# Altium integrated library TI Power Management Standard Voltage Regulator.IntLib: 214 symbols (part 5 of 7)
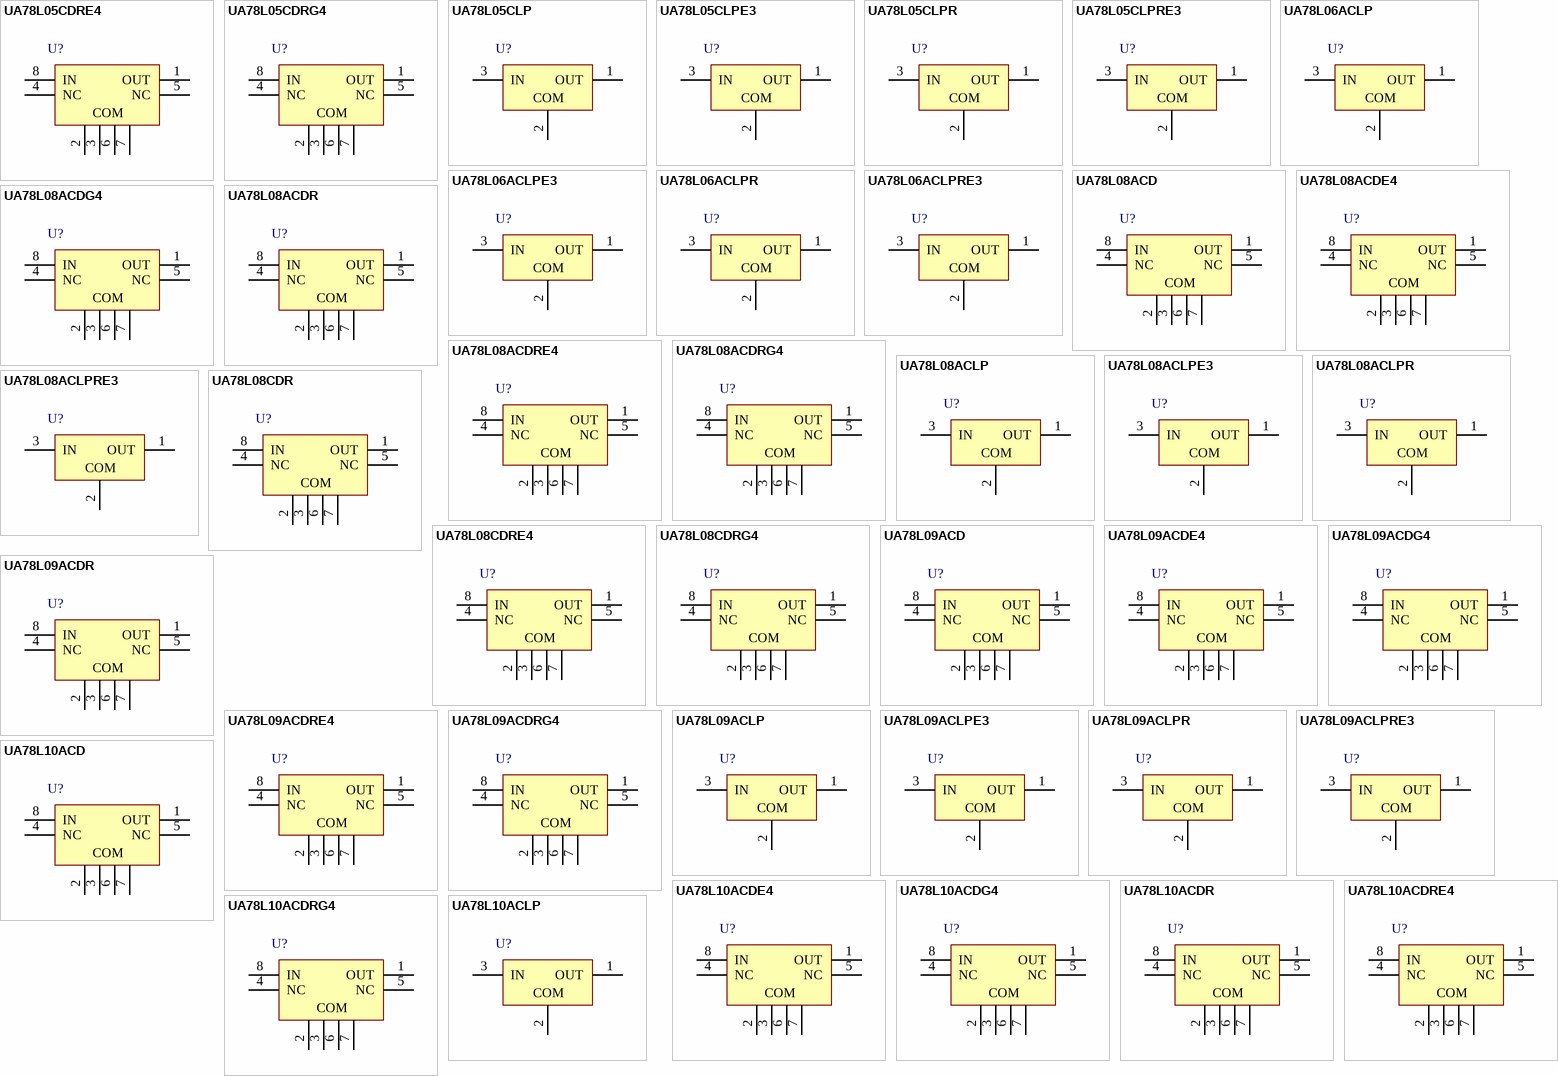
[diagram p10: symbols UA78L05CDRE4 to UA78L10ACLP]

## UA78L05CDRE4
designator U?
Fixed Regulator with 7 to 20 V Input and 5 V Output, 0 to 125 degC, 8-Pin SOIC (D), Green (RoHS & no Sb/Br); Manufacturer: Texas Instruments; PartNumber: UA78L05CDRE4; Iout(Max)(A): 0.1; Iq(Typ)(mA): 6; SubFamily: Single Channel LDO; Vin(Max)(V): 20; Vin(Min)(V): 7; Vout(Max)(V): 5; DatasheetVersion: SLVS010S; PackageVersion: revM, Jun-2011; PackageReference: D8; PackageDescription: 8-Pin Plastic Small Outline Integrated Circuit, 4.9 x 3.9 mm, Pitch 1.27 mm Pitch; Supplier 1: Digi-Key; Supplier Part Number 1: UA78L05CDRE4-ND; Supplier 2: Newark; Supplier Part Number 2: 37K4713; Supplier 3: Mouser; Supplier Part Number 3: 595-UA78L05CDRE4; Eco-Plan: Green (RoHS & no Sb/Br); Vout(Min)(V): 5; Mounting Technology: Surface Mount; Code_JEDEC: MS-012AA; ComponentLink1Description: Datasheet; ComponentLink1URL: http://www.ti.com/general/docs/lit/getliterature.tsp?genericPartNumber=UA78L05&fileType=pdf; ComponentLink2Description: Package Specification; ComponentLink2URL: http://www.ti.com/litv/pdf/msoi002j; ComponentLink3Description: URL Link1; ComponentLink3URL: Samples URL:http://www.ti.com/product/ua78l05#samples
footprint D8_N (SOIC, 8-Leads, Body 4.9x3.9mm, Pitch 1.27mm, IPC Medium Density)
footprint D8_L (SOIC, 8-Leads, Body 4.9x3.9mm, Pitch 1.27mm, IPC High Density)
footprint D8_M (SOIC, 8-Leads, Body 4.9x3.9mm, Pitch 1.27mm, IPC Low Density)
pins: 1 OUT (power), 2 COM (power), 3 COM (power), 4 NC, 5 NC, 6 COM (power), 7 COM (power), 8 IN (power)

## UA78L05CDRG4
designator U?
Fixed Regulator with 7 to 20 V Input and 5 V Output, 0 to 125 degC, 8-Pin SOIC (D), Green (RoHS & no Sb/Br); Manufacturer: Texas Instruments; PartNumber: UA78L05CDRG4; Iout(Max)(A): 0.1; Iq(Typ)(mA): 6; Vin(Max)(V): 20; Vin(Min)(V): 7; Vout(Max)(V): 5; DatasheetVersion: SLVS010S; PackageVersion: revM, Jun-2011; PackageReference: D8; PackageDescription: 8-Pin Plastic Small Outline Integrated Circuit, 4.9 x 3.9 mm, Pitch 1.27 mm Pitch; Supplier 1: Digi-Key; Supplier Part Number 1: UA78L05CDRG4-ND; Supplier 2: Newark; Supplier Part Number 2: 58K7029; Supplier 3: Mouser; Supplier Part Number 3: 595-UA78L05CDRG4; Eco-Plan: Green (RoHS & no Sb/Br); Vout(Min)(V): 5; Mounting Technology: Surface Mount; Code_JEDEC: MS-012AA; ComponentLink1Description: Datasheet; ComponentLink1URL: http://www.ti.com/general/docs/lit/getliterature.tsp?genericPartNumber=UA78L05&fileType=pdf; ComponentLink2Description: Package Specification; ComponentLink2URL: http://www.ti.com/litv/pdf/msoi002j; ComponentLink3Description: URL Link1; ComponentLink3URL: Samples URL:http://www.ti.com/product/ua78l05#samples
footprint D8_N (SOIC, 8-Leads, Body 4.9x3.9mm, Pitch 1.27mm, IPC Medium Density)
footprint D8_L (SOIC, 8-Leads, Body 4.9x3.9mm, Pitch 1.27mm, IPC High Density)
footprint D8_M (SOIC, 8-Leads, Body 4.9x3.9mm, Pitch 1.27mm, IPC Low Density)
pins: 1 OUT (power), 2 COM (power), 3 COM (power), 4 NC, 5 NC, 6 COM (power), 7 COM (power), 8 IN (power)

## UA78L05CLP
designator U?
Fixed Regulator with 7 to 20 V Input and 5 V Output, 0 to 125 degC, 3-Pin TO-92 (LP), Pb-Free (RoHS); Manufacturer: Texas Instruments; PartNumber: UA78L05CLP; Iout(Max)(A): 0.1; Iq(Typ)(mA): 6; SubFamily: Single Channel LDO; Vin(Max)(V): 20; Vin(Min)(V): 7; Vout(Max)(V): 5; DatasheetVersion: SLVS010S; PackageVersion: revC, Oct-2001; PackageReference: LP3; PackageDescription: Plastic Cylindrical Package, Formed Lead Option (TO-92); Supplier 1: Digi-Key; Supplier Part Number 1: 296-11121-5-ND; Supplier 2: Newark; Supplier Part Number 2: 52M8832; Supplier 3: Mouser; Supplier Part Number 3: 595-UA78L05CLP; Eco-Plan: Pb-Free (RoHS); Vout(Min)(V): 5; Mounting Technology: Through Hole; Code_JEDEC: TO-226-AA; ComponentLink1Description: Datasheet; ComponentLink1URL: http://www.ti.com/general/docs/lit/getliterature.tsp?genericPartNumber=UA78L05&fileType=pdf; ComponentLink2Description: Package Specification; ComponentLink2URL: http://www.ti.com/litv/pdf/msot002a; ComponentLink3Description: URL Link1; ComponentLink3URL: Samples URL:http://www.ti.com/product/ua78l05#samples
footprint LP3 (TO, Flat Index; 3 In-Line, Formed Axial Leads; Body Dia. 4.8mm; Leads 0.56 x 0.41 mm (max))
pins: 1 OUT (power), 2 COM (power), 3 IN (power)

## UA78L05CLPE3
designator U?
Fixed Regulator with 7 to 20 V Input and 5 V Output, 0 to 125 degC, 3-Pin TO-92 (LP), Pb-Free (RoHS); Manufacturer: Texas Instruments; PartNumber: UA78L05CLPE3; Iout(Max)(A): 0.1; Iq(Typ)(mA): 6; SubFamily: Standard Voltage Regulator; Vin(Max)(V): 20; Vin(Min)(V): 7; Vout(Max)(V): 5; DatasheetVersion: SLVS010S; PackageVersion: revC, Oct-2001; PackageReference: LP3; PackageDescription: Plastic Cylindrical Package, Formed Lead Option (TO-92); Supplier 1: Digi-Key; Supplier Part Number 1: UA78L05CLPE3-ND; Supplier 2: Newark; Supplier Part Number 2: 70K5839; Supplier 3: Mouser; Supplier Part Number 3: 595-UA78L05CLPE3; Eco-Plan: Pb-Free (RoHS); Vout(Min)(V): 5; Mounting Technology: Through Hole; Code_JEDEC: TO-226-AA; ComponentLink1Description: Datasheet; ComponentLink1URL: http://www.ti.com/general/docs/lit/getliterature.tsp?genericPartNumber=UA78L05&fileType=pdf; ComponentLink2Description: Package Specification; ComponentLink2URL: http://www.ti.com/litv/pdf/msot002a; ComponentLink3Description: URL Link1; ComponentLink3URL: Samples URL:http://www.ti.com/product/ua78l05#samples
footprint LP3 (TO, Flat Index; 3 In-Line, Formed Axial Leads; Body Dia. 4.8mm; Leads 0.56 x 0.41 mm (max))
pins: 1 OUT (power), 2 COM (power), 3 IN (power)

## UA78L05CLPR
designator U?
Fixed Regulator with 7 to 20 V Input and 5 V Output, 0 to 125 degC, 3-Pin TO-92 (LP), Pb-Free (RoHS); Manufacturer: Texas Instruments; PartNumber: UA78L05CLPR; Iout(Max)(A): 0.1; Iq(Typ)(mA): 6; SubFamily: Single Channel LDO; Vin(Max)(V): 20; Vin(Min)(V): 7; Vout(Max)(V): 5; DatasheetVersion: SLVS010S; PackageVersion: revC, Oct-2001; PackageReference: LP3; PackageDescription: Plastic Cylindrical Package, Formed Lead Option (TO-92); Supplier 1: Digi-Key; Supplier Part Number 1: UA78L05CLPR-ND; Supplier 2: Newark; Supplier Part Number 2: 77C1861; Supplier 3: Mouser; Supplier Part Number 3: 595-UA78L05CLPR; Eco-Plan: Pb-Free (RoHS); Vout(Min)(V): 5; Mounting Technology: Through Hole; Code_JEDEC: TO-226-AA; ComponentLink1Description: Datasheet; ComponentLink1URL: http://www.ti.com/general/docs/lit/getliterature.tsp?genericPartNumber=UA78L05&fileType=pdf; ComponentLink2Description: Package Specification; ComponentLink2URL: http://www.ti.com/litv/pdf/msot002a; ComponentLink3Description: URL Link1; ComponentLink3URL: Samples URL:http://www.ti.com/product/ua78l05#samples
footprint LP3 (TO, Flat Index; 3 In-Line, Formed Axial Leads; Body Dia. 4.8mm; Leads 0.56 x 0.41 mm (max))
pins: 1 OUT (power), 2 COM (power), 3 IN (power)

## UA78L05CLPRE3
designator U?
Fixed Regulator with 7 to 20 V Input and 5 V Output, 0 to 125 degC, 3-Pin TO-92 (LP), Pb-Free (RoHS); Manufacturer: Texas Instruments; PartNumber: UA78L05CLPRE3; Iout(Max)(A): 0.1; Iq(Typ)(mA): 6; SubFamily: Single Channel LDO; Vin(Max)(V): 20; Vin(Min)(V): 7; Vout(Max)(V): 5; DatasheetVersion: SLVS010S; PackageVersion: revC, Oct-2001; PackageReference: LP3; PackageDescription: Plastic Cylindrical Package, Formed Lead Option (TO-92); Supplier 1: Digi-Key; Supplier Part Number 1: UA78L05CLPRE3-ND; Supplier 2: Newark; Supplier Part Number 2: 70K5840; Supplier 3: Mouser; Supplier Part Number 3: 595-UA78L05CLPRE3; Eco-Plan: Pb-Free (RoHS); Vout(Min)(V): 5; Mounting Technology: Through Hole; Code_JEDEC: TO-226-AA; ComponentLink1Description: Datasheet; ComponentLink1URL: http://www.ti.com/general/docs/lit/getliterature.tsp?genericPartNumber=UA78L05&fileType=pdf; ComponentLink2Description: Package Specification; ComponentLink2URL: http://www.ti.com/litv/pdf/msot002a; ComponentLink3Description: URL Link1; ComponentLink3URL: Samples URL:http://www.ti.com/product/ua78l05#samples
footprint LP3 (TO, Flat Index; 3 In-Line, Formed Axial Leads; Body Dia. 4.8mm; Leads 0.56 x 0.41 mm (max))
pins: 1 OUT (power), 2 COM (power), 3 IN (power)

## UA78L06ACLP
designator U?
Fixed Regulator with 8.5 to 20 V Input and 6.2 V Output, 0 to 125 degC, 3-Pin TO-92 (LP), Pb-Free (RoHS); Manufacturer: Texas Instruments; PartNumber: UA78L06ACLP; Iout(Max)(A): 0.1; Iq(Typ)(mA): 6; SubFamily: Single Channel LDO; Vin(Max)(V): 20; Vin(Min)(V): 8.5; Vout(Max)(V): 6.2; DatasheetVersion: SLVS010S; PackageVersion: revC, Oct-2001; PackageReference: LP3; PackageDescription: Plastic Cylindrical Package, Formed Lead Option (TO-92); Supplier 1: Digi-Key; Supplier Part Number 1: 296-11122-5-ND; Supplier 2: Newark; Supplier Part Number 2: 09F1486; Supplier 3: Mouser; Supplier Part Number 3: 595-UA78L06ACLP; Eco-Plan: Pb-Free (RoHS); Vout(Min)(V): 6.2; Mounting Technology: Through Hole; Code_JEDEC: TO-226-AA; ComponentLink1Description: Datasheet; ComponentLink1URL: http://www.ti.com/general/docs/lit/getliterature.tsp?genericPartNumber=UA78L06A&fileType=pdf; ComponentLink2Description: Package Specification; ComponentLink2URL: http://www.ti.com/litv/pdf/msot002a; ComponentLink3Description: URL Link1; ComponentLink3URL: Samples URL:http://www.ti.com/product/ua78l06a#samples
footprint LP3 (TO, Flat Index; 3 In-Line, Formed Axial Leads; Body Dia. 4.8mm; Leads 0.56 x 0.41 mm (max))
pins: 1 OUT (power), 2 COM (power), 3 IN (power)

## UA78L06ACLPE3
designator U?
Fixed Regulator with 8.5 to 20 V Input and 6.2 V Output, 0 to 125 degC, 3-Pin TO-92 (LP), Pb-Free (RoHS); Manufacturer: Texas Instruments; PartNumber: UA78L06ACLPE3; Iout(Max)(A): 0.1; Iq(Typ)(mA): 6; SubFamily: Single Channel LDO; Vin(Max)(V): 20; Vin(Min)(V): 8.5; Vout(Max)(V): 6.2; DatasheetVersion: SLVS010S; PackageVersion: revC, Oct-2001; PackageReference: LP3; PackageDescription: Plastic Cylindrical Package, Formed Lead Option (TO-92); Supplier 1: Digi-Key; Supplier Part Number 1: UA78L06ACLPE3-ND; Supplier 2: Farnell; Supplier Part Number 2: 1236592; Supplier 3: Newark; Supplier Part Number 3: 13M3345; Supplier 4: Newark; Supplier Part Number 4: 70K5841; Supplier 5: Mouser; Supplier Part Number 5: 595-UA78L06ACLPE3; Eco-Plan: Pb-Free (RoHS); Vout(Min)(V): 6.2; Mounting Technology: Through Hole; Code_JEDEC: TO-226-AA; ComponentLink1Description: Datasheet; ComponentLink1URL: http://www.ti.com/general/docs/lit/getliterature.tsp?genericPartNumber=UA78L06A&fileType=pdf; ComponentLink2Description: Package Specification; ComponentLink2URL: http://www.ti.com/litv/pdf/msot002a; ComponentLink3Description: URL Link1; ComponentLink3URL: Samples URL:http://www.ti.com/product/ua78l06a#samples
footprint LP3 (TO, Flat Index; 3 In-Line, Formed Axial Leads; Body Dia. 4.8mm; Leads 0.56 x 0.41 mm (max))
pins: 1 OUT (power), 2 COM (power), 3 IN (power)

## UA78L06ACLPR
designator U?
Fixed Regulator with 8.5 to 20 V Input and 6.2 V Output, 0 to 125 degC, 3-Pin TO-92 (LP), Pb-Free (RoHS); Manufacturer: Texas Instruments; PartNumber: UA78L06ACLPR; Iout(Max)(A): 0.1; Iq(Typ)(mA): 6; SubFamily: Single Channel LDO; Vin(Max)(V): 20; Vin(Min)(V): 8.5; Vout(Max)(V): 6.2; DatasheetVersion: SLVS010S; PackageVersion: revC, Oct-2001; PackageReference: LP3; PackageDescription: Plastic Cylindrical Package, Formed Lead Option (TO-92); Supplier 1: Digi-Key; Supplier Part Number 1: 296-31461-2-ND; Supplier 2: Digi-Key; Supplier Part Number 2: 296-31461-1-ND; Supplier 3: Newark; Supplier Part Number 3: 77C1863; Supplier 4: Mouser; Supplier Part Number 4: 595-UA78L06ACLPR; Eco-Plan: Pb-Free (RoHS); Vout(Min)(V): 6.2; Mounting Technology: Through Hole; Code_JEDEC: TO-226-AA; ComponentLink1Description: Datasheet; ComponentLink1URL: http://www.ti.com/general/docs/lit/getliterature.tsp?genericPartNumber=UA78L06A&fileType=pdf; ComponentLink2Description: Package Specification; ComponentLink2URL: http://www.ti.com/litv/pdf/msot002a; ComponentLink3Description: URL Link1; ComponentLink3URL: Samples URL:http://www.ti.com/product/ua78l06a#samples
footprint LP3 (TO, Flat Index; 3 In-Line, Formed Axial Leads; Body Dia. 4.8mm; Leads 0.56 x 0.41 mm (max))
pins: 1 OUT (power), 2 COM (power), 3 IN (power)

## UA78L06ACLPRE3
designator U?
Fixed Regulator with 8.5 to 20 V Input and 6.2 V Output, 0 to 125 degC, 3-Pin TO-92 (LP), Pb-Free (RoHS); Manufacturer: Texas Instruments; PartNumber: UA78L06ACLPRE3; Iout(Max)(A): 0.1; Iq(Typ)(mA): 6; SubFamily: Single Channel LDO; Vin(Max)(V): 20; Vin(Min)(V): 8.5; Vout(Max)(V): 6.2; DatasheetVersion: SLVS010S; PackageVersion: revC, Oct-2001; PackageReference: LP3; PackageDescription: Plastic Cylindrical Package, Formed Lead Option (TO-92); Supplier 1: Digi-Key; Supplier Part Number 1: UA78L06ACLPRE3-ND; Supplier 2: Newark; Supplier Part Number 2: 70K5842; Supplier 3: Mouser; Supplier Part Number 3: 595-UA78L06ACLPRE3; Eco-Plan: Pb-Free (RoHS); Vout(Min)(V): 6.2; Mounting Technology: Through Hole; Code_JEDEC: TO-226-AA; ComponentLink1Description: Datasheet; ComponentLink1URL: http://www.ti.com/general/docs/lit/getliterature.tsp?genericPartNumber=UA78L06A&fileType=pdf; ComponentLink2Description: Package Specification; ComponentLink2URL: http://www.ti.com/litv/pdf/msot002a; ComponentLink3Description: URL Link1; ComponentLink3URL: Samples URL:http://www.ti.com/product/ua78l06a#samples
footprint LP3 (TO, Flat Index; 3 In-Line, Formed Axial Leads; Body Dia. 4.8mm; Leads 0.56 x 0.41 mm (max))
pins: 1 OUT (power), 2 COM (power), 3 IN (power)

## UA78L08ACD
designator U?
Fixed Regulator with 10.5 to 23 V Input and 8 V Output, 0 to 125 degC, 8-Pin SOIC (D), Green (RoHS & no Sb/Br); Manufacturer: Texas Instruments; PartNumber: UA78L08ACD; Iout(Max)(A): 0.1; Iq(Typ)(mA): 6; Vdo(Typ)(V): 1.7; Vin(Max)(V): 23; Vin(Min)(V): 10.5; Vout(Max)(V): 8; DatasheetVersion: SLVS010S; PackageVersion: revM, Jun-2011; PackageReference: D8; PackageDescription: 8-Pin Plastic Small Outline Integrated Circuit, 4.9 x 3.9 mm, Pitch 1.27 mm Pitch; Supplier 1: Digi-Key; Supplier Part Number 1: 296-11123-5-ND; Supplier 2: Farnell; Supplier Part Number 2: 9593888; Supplier 3: Newark; Supplier Part Number 3: 98K2049; Supplier 4: Newark; Supplier Part Number 4: 09F1488; Supplier 5: Mouser; Supplier Part Number 5: 595-UA78L08ACD; Eco-Plan: Green (RoHS & no Sb/Br); Vout(Min)(V): 8; Mounting Technology: Surface Mount; Code_JEDEC: MS-012AA; ComponentLink1Description: Datasheet; ComponentLink1URL: http://www.ti.com/general/docs/lit/getliterature.tsp?genericPartNumber=UA78L08A&fileType=pdf; ComponentLink2Description: Package Specification; ComponentLink2URL: http://www.ti.com/litv/pdf/msoi002j; ComponentLink3Description: URL Link1; ComponentLink3URL: Samples URL:http://www.ti.com/product/ua78l08a#samples
footprint D8_N (SOIC, 8-Leads, Body 4.9x3.9mm, Pitch 1.27mm, IPC Medium Density)
footprint D8_L (SOIC, 8-Leads, Body 4.9x3.9mm, Pitch 1.27mm, IPC High Density)
footprint D8_M (SOIC, 8-Leads, Body 4.9x3.9mm, Pitch 1.27mm, IPC Low Density)
pins: 1 OUT (power), 2 COM (power), 3 COM (power), 4 NC, 5 NC, 6 COM (power), 7 COM (power), 8 IN (power)

## UA78L08ACDE4
designator U?
Fixed Regulator with 10.5 to 23 V Input and 8 V Output, 0 to 125 degC, 8-Pin SOIC (D), Green (RoHS & no Sb/Br); Manufacturer: Texas Instruments; PartNumber: UA78L08ACDE4; Iout(Max)(A): 0.1; Iq(Typ)(mA): 6; Vdo(Typ)(V): 1.7; Vin(Max)(V): 23; Vin(Min)(V): 10.5; Vout(Max)(V): 8; DatasheetVersion: SLVS010S; PackageVersion: revM, Jun-2011; PackageReference: D8; PackageDescription: 8-Pin Plastic Small Outline Integrated Circuit, 4.9 x 3.9 mm, Pitch 1.27 mm Pitch; Supplier 1: Digi-Key; Supplier Part Number 1: UA78L08ACDE4-ND; Supplier 2: Newark; Supplier Part Number 2: 40K9819; Supplier 3: Mouser; Supplier Part Number 3: 595-UA78L08ACDE4; Eco-Plan: Green (RoHS & no Sb/Br); Vout(Min)(V): 8; Mounting Technology: Surface Mount; Code_JEDEC: MS-012AA; ComponentLink1Description: Datasheet; ComponentLink1URL: http://www.ti.com/general/docs/lit/getliterature.tsp?genericPartNumber=UA78L08A&fileType=pdf; ComponentLink2Description: Package Specification; ComponentLink2URL: http://www.ti.com/litv/pdf/msoi002j; ComponentLink3Description: URL Link1; ComponentLink3URL: Samples URL:http://www.ti.com/product/ua78l08a#samples
footprint D8_N (SOIC, 8-Leads, Body 4.9x3.9mm, Pitch 1.27mm, IPC Medium Density)
footprint D8_L (SOIC, 8-Leads, Body 4.9x3.9mm, Pitch 1.27mm, IPC High Density)
footprint D8_M (SOIC, 8-Leads, Body 4.9x3.9mm, Pitch 1.27mm, IPC Low Density)
pins: 1 OUT (power), 2 COM (power), 3 COM (power), 4 NC, 5 NC, 6 COM (power), 7 COM (power), 8 IN (power)

## UA78L08ACDG4
designator U?
Fixed Regulator with 10.5 to 23 V Input and 8 V Output, 0 to 125 degC, 8-Pin SOIC (D), Green (RoHS & no Sb/Br); Manufacturer: Texas Instruments; PartNumber: UA78L08ACDG4; Iout(Max)(A): 0.1; Iq(Typ)(mA): 6; Vdo(Typ)(V): 1.7; Vin(Max)(V): 23; Vin(Min)(V): 10.5; Vout(Max)(V): 8; DatasheetVersion: SLVS010S; PackageVersion: revM, Jun-2011; PackageReference: D8; PackageDescription: 8-Pin Plastic Small Outline Integrated Circuit, 4.9 x 3.9 mm, Pitch 1.27 mm Pitch; Supplier 1: Digi-Key; Supplier Part Number 1: UA78L08ACDG4-ND; Supplier 2: Newark; Supplier Part Number 2: 40K9820; Supplier 3: Mouser; Supplier Part Number 3: 595-UA78L08ACDG4; Eco-Plan: Green (RoHS & no Sb/Br); Vout(Min)(V): 8; Mounting Technology: Surface Mount; Code_JEDEC: MS-012AA; ComponentLink1Description: Datasheet; ComponentLink1URL: http://www.ti.com/general/docs/lit/getliterature.tsp?genericPartNumber=UA78L08A&fileType=pdf; ComponentLink2Description: Package Specification; ComponentLink2URL: http://www.ti.com/litv/pdf/msoi002j; ComponentLink3Description: URL Link1; ComponentLink3URL: Samples URL:http://www.ti.com/product/ua78l08a#samples
footprint D8_N (SOIC, 8-Leads, Body 4.9x3.9mm, Pitch 1.27mm, IPC Medium Density)
footprint D8_L (SOIC, 8-Leads, Body 4.9x3.9mm, Pitch 1.27mm, IPC High Density)
footprint D8_M (SOIC, 8-Leads, Body 4.9x3.9mm, Pitch 1.27mm, IPC Low Density)
pins: 1 OUT (power), 2 COM (power), 3 COM (power), 4 NC, 5 NC, 6 COM (power), 7 COM (power), 8 IN (power)

## UA78L08ACDR
designator U?
Fixed Regulator with 10.5 to 23 V Input and 8 V Output, 0 to 125 degC, 8-Pin SOIC (D), Green (RoHS & no Sb/Br); Manufacturer: Texas Instruments; PartNumber: UA78L08ACDR; Iout(Max)(A): 0.1; Iq(Typ)(mA): 6; Vdo(Typ)(V): 1.7; Vin(Max)(V): 23; Vin(Min)(V): 10.5; Vout(Max)(V): 8; DatasheetVersion: SLVS010S; PackageVersion: revM, Jun-2011; PackageReference: D8; PackageDescription: 8-Pin Plastic Small Outline Integrated Circuit, 4.9 x 3.9 mm, Pitch 1.27 mm Pitch; Supplier 1: Digi-Key; Supplier Part Number 1: 296-24390-2-ND; Supplier 2: Digi-Key; Supplier Part Number 2: 296-24390-1-ND; Supplier 3: Digi-Key; Supplier Part Number 3: 296-24390-6-ND; Supplier 4: Newark; Supplier Part Number 4: 77C1865; Supplier 5: Mouser; Supplier Part Number 5: 595-UA78L08ACDR; Eco-Plan: Green (RoHS & no Sb/Br); Vout(Min)(V): 8; Mounting Technology: Surface Mount; Code_JEDEC: MS-012AA; ComponentLink1Description: Datasheet; ComponentLink1URL: http://www.ti.com/general/docs/lit/getliterature.tsp?genericPartNumber=UA78L08A&fileType=pdf; ComponentLink2Description: Package Specification; ComponentLink2URL: http://www.ti.com/litv/pdf/msoi002j; ComponentLink3Description: URL Link1; ComponentLink3URL: Samples URL:http://www.ti.com/product/ua78l08a#samples
footprint D8_N (SOIC, 8-Leads, Body 4.9x3.9mm, Pitch 1.27mm, IPC Medium Density)
footprint D8_L (SOIC, 8-Leads, Body 4.9x3.9mm, Pitch 1.27mm, IPC High Density)
footprint D8_M (SOIC, 8-Leads, Body 4.9x3.9mm, Pitch 1.27mm, IPC Low Density)
pins: 1 OUT (power), 2 COM (power), 3 COM (power), 4 NC, 5 NC, 6 COM (power), 7 COM (power), 8 IN (power)

## UA78L08ACDRE4
designator U?
Fixed Regulator with 10.5 to 23 V Input and 8 V Output, 0 to 125 degC, 8-Pin SOIC (D), Green (RoHS & no Sb/Br); Manufacturer: Texas Instruments; PartNumber: UA78L08ACDRE4; Iout(Max)(A): 0.1; Iq(Typ)(mA): 6; SubFamily: Standard Voltage Regulator; Vin(Max)(V): 23; Vin(Min)(V): 10.5; Vout(Max)(V): 8; DatasheetVersion: SLVS010S; PackageVersion: revM, Jun-2011; PackageReference: D8; PackageDescription: 8-Pin Plastic Small Outline Integrated Circuit, 4.9 x 3.9 mm, Pitch 1.27 mm Pitch; Supplier 1: Digi-Key; Supplier Part Number 1: UA78L08ACDRE4-ND; Supplier 2: Newark; Supplier Part Number 2: 40K9821; Supplier 3: Mouser; Supplier Part Number 3: 595-UA78L08ACDRE4; Eco-Plan: Green (RoHS & no Sb/Br); Vout(Min)(V): 8; Mounting Technology: Surface Mount; Code_JEDEC: MS-012AA; ComponentLink1Description: Datasheet; ComponentLink1URL: http://www.ti.com/general/docs/lit/getliterature.tsp?genericPartNumber=UA78L08A&fileType=pdf; ComponentLink2Description: Package Specification; ComponentLink2URL: http://www.ti.com/litv/pdf/msoi002j; ComponentLink3Description: URL Link1; ComponentLink3URL: Samples URL:http://www.ti.com/product/ua78l08a#samples
footprint D8_N (SOIC, 8-Leads, Body 4.9x3.9mm, Pitch 1.27mm, IPC Medium Density)
footprint D8_L (SOIC, 8-Leads, Body 4.9x3.9mm, Pitch 1.27mm, IPC High Density)
footprint D8_M (SOIC, 8-Leads, Body 4.9x3.9mm, Pitch 1.27mm, IPC Low Density)
pins: 1 OUT (power), 2 COM (power), 3 COM (power), 4 NC, 5 NC, 6 COM (power), 7 COM (power), 8 IN (power)

## UA78L08ACDRG4
designator U?
Fixed Regulator with 10.5 to 23 V Input and 8 V Output, 0 to 125 degC, 8-Pin SOIC (D), Green (RoHS & no Sb/Br); Manufacturer: Texas Instruments; PartNumber: UA78L08ACDRG4; Iout(Max)(A): 0.1; Iq(Typ)(mA): 6; Vdo(Typ)(V): 1.7; Vin(Max)(V): 23; Vin(Min)(V): 10.5; Vout(Max)(V): 8; DatasheetVersion: SLVS010S; PackageVersion: revM, Jun-2011; PackageReference: D8; PackageDescription: 8-Pin Plastic Small Outline Integrated Circuit, 4.9 x 3.9 mm, Pitch 1.27 mm Pitch; Supplier 1: Digi-Key; Supplier Part Number 1: UA78L08ACDRG4-ND; Supplier 2: Newark; Supplier Part Number 2: 40K9822; Supplier 3: Mouser; Supplier Part Number 3: 595-UA78L08ACDRG4; Eco-Plan: Green (RoHS & no Sb/Br); Vout(Min)(V): 8; Mounting Technology: Surface Mount; Code_JEDEC: MS-012AA; ComponentLink1Description: Datasheet; ComponentLink1URL: http://www.ti.com/general/docs/lit/getliterature.tsp?genericPartNumber=UA78L08A&fileType=pdf; ComponentLink2Description: Package Specification; ComponentLink2URL: http://www.ti.com/litv/pdf/msoi002j; ComponentLink3Description: URL Link1; ComponentLink3URL: Samples URL:http://www.ti.com/product/ua78l08a#samples
footprint D8_N (SOIC, 8-Leads, Body 4.9x3.9mm, Pitch 1.27mm, IPC Medium Density)
footprint D8_L (SOIC, 8-Leads, Body 4.9x3.9mm, Pitch 1.27mm, IPC High Density)
footprint D8_M (SOIC, 8-Leads, Body 4.9x3.9mm, Pitch 1.27mm, IPC Low Density)
pins: 1 OUT (power), 2 COM (power), 3 COM (power), 4 NC, 5 NC, 6 COM (power), 7 COM (power), 8 IN (power)

## UA78L08ACLP
designator U?
Fixed Regulator with 10.5 to 23 V Input and 8 V Output, 0 to 125 degC, 3-Pin TO-92 (LP), Pb-Free (RoHS); Manufacturer: Texas Instruments; PartNumber: UA78L08ACLP; Iout(Max)(A): 0.1; Iq(Typ)(mA): 6; Vdo(Typ)(V): 1.7; Vin(Max)(V): 23; Vin(Min)(V): 10.5; Vout(Max)(V): 8; DatasheetVersion: SLVS010S; PackageVersion: revC, Oct-2001; PackageReference: LP3; PackageDescription: Plastic Cylindrical Package, Formed Lead Option (TO-92); Supplier 1: Digi-Key; Supplier Part Number 1: 296-11124-5-ND; Supplier 2: Farnell; Supplier Part Number 2: 2394030; Supplier 3: Newark; Supplier Part Number 3: 09F1489; Supplier 4: Mouser; Supplier Part Number 4: 595-UA78L08ACLP; Eco-Plan: Pb-Free (RoHS); Vout(Min)(V): 8; Mounting Technology: Through Hole; Code_JEDEC: TO-226-AA; ComponentLink1Description: Datasheet; ComponentLink1URL: http://www.ti.com/general/docs/lit/getliterature.tsp?genericPartNumber=UA78L08A&fileType=pdf; ComponentLink2Description: Package Specification; ComponentLink2URL: http://www.ti.com/litv/pdf/msot002a; ComponentLink3Description: URL Link1; ComponentLink3URL: Samples URL:http://www.ti.com/product/ua78l08a#samples
footprint LP3 (TO, Flat Index; 3 In-Line, Formed Axial Leads; Body Dia. 4.8mm; Leads 0.56 x 0.41 mm (max))
pins: 1 OUT (power), 2 COM (power), 3 IN (power)

## UA78L08ACLPE3
designator U?
Fixed Regulator with 10.5 to 23 V Input and 8 V Output, 0 to 125 degC, 3-Pin TO-92 (LP), Pb-Free (RoHS); Manufacturer: Texas Instruments; PartNumber: UA78L08ACLPE3; Iout(Max)(A): 0.1; Iq(Typ)(mA): 6; SubFamily: Standard Voltage Regulator; Vin(Max)(V): 23; Vin(Min)(V): 10.5; Vout(Max)(V): 8; DatasheetVersion: SLVS010S; PackageVersion: revC, Oct-2001; PackageReference: LP3; PackageDescription: Plastic Cylindrical Package, Formed Lead Option (TO-92); Supplier 1: Digi-Key; Supplier Part Number 1: UA78L08ACLPE3-ND; Supplier 2: Newark; Supplier Part Number 2: 70K5843; Supplier 3: Mouser; Supplier Part Number 3: 595-UA78L08ACLPE3; Eco-Plan: Pb-Free (RoHS); Vout(Min)(V): 8; Mounting Technology: Through Hole; Code_JEDEC: TO-226-AA; ComponentLink1Description: Datasheet; ComponentLink1URL: http://www.ti.com/general/docs/lit/getliterature.tsp?genericPartNumber=UA78L08A&fileType=pdf; ComponentLink2Description: Package Specification; ComponentLink2URL: http://www.ti.com/litv/pdf/msot002a; ComponentLink3Description: URL Link1; ComponentLink3URL: Samples URL:http://www.ti.com/product/ua78l08a#samples
footprint LP3 (TO, Flat Index; 3 In-Line, Formed Axial Leads; Body Dia. 4.8mm; Leads 0.56 x 0.41 mm (max))
pins: 1 OUT (power), 2 COM (power), 3 IN (power)

## UA78L08ACLPR
designator U?
Fixed Regulator with 10.5 to 23 V Input and 8 V Output, 0 to 125 degC, 3-Pin TO-92 (LP), Pb-Free (RoHS); Manufacturer: Texas Instruments; PartNumber: UA78L08ACLPR; Iout(Max)(A): 0.1; Iq(Typ)(mA): 6; SubFamily: Standard Voltage Regulator; Vin(Max)(V): 23; Vin(Min)(V): 10.5; Vout(Max)(V): 8; DatasheetVersion: SLVS010S; PackageVersion: revC, Oct-2001; PackageReference: LP3; PackageDescription: Plastic Cylindrical Package, Formed Lead Option (TO-92); Supplier 1: Digi-Key; Supplier Part Number 1: 296-15052-2-ND; Supplier 2: Digi-Key; Supplier Part Number 2: 296-15052-1-ND; Supplier 3: Newark; Supplier Part Number 3: 77C1866; Supplier 4: Mouser; Supplier Part Number 4: 595-UA78L08ACLPR; Eco-Plan: Pb-Free (RoHS); Vout(Min)(V): 8; Mounting Technology: Through Hole; Code_JEDEC: TO-226-AA; ComponentLink1Description: Datasheet; ComponentLink1URL: http://www.ti.com/general/docs/lit/getliterature.tsp?genericPartNumber=UA78L08A&fileType=pdf; ComponentLink2Description: Package Specification; ComponentLink2URL: http://www.ti.com/litv/pdf/msot002a; ComponentLink3Description: URL Link1; ComponentLink3URL: Samples URL:http://www.ti.com/product/ua78l08a#samples
footprint LP3 (TO, Flat Index; 3 In-Line, Formed Axial Leads; Body Dia. 4.8mm; Leads 0.56 x 0.41 mm (max))
pins: 1 OUT (power), 2 COM (power), 3 IN (power)

## UA78L08ACLPRE3
designator U?
Fixed Regulator with 10.5 to 23 V Input and 8 V Output, 0 to 125 degC, 3-Pin TO-92 (LP), Pb-Free (RoHS); Manufacturer: Texas Instruments; PartNumber: UA78L08ACLPRE3; Iout(Max)(A): 0.1; Iq(Typ)(mA): 6; SubFamily: Standard Voltage Regulator; Vin(Max)(V): 23; Vin(Min)(V): 10.5; Vout(Max)(V): 8; DatasheetVersion: SLVS010S; PackageVersion: revC, Oct-2001; PackageReference: LP3; PackageDescription: Plastic Cylindrical Package, Formed Lead Option (TO-92); Supplier 1: Digi-Key; Supplier Part Number 1: UA78L08ACLPRE3-ND; Supplier 2: Newark; Supplier Part Number 2: 70K5844; Supplier 3: Mouser; Supplier Part Number 3: 595-UA78L08ACLPRE3; Eco-Plan: Pb-Free (RoHS); Vout(Min)(V): 8; Mounting Technology: Through Hole; Code_JEDEC: TO-226-AA; ComponentLink1Description: Datasheet; ComponentLink1URL: http://www.ti.com/general/docs/lit/getliterature.tsp?genericPartNumber=UA78L08A&fileType=pdf; ComponentLink2Description: Package Specification; ComponentLink2URL: http://www.ti.com/litv/pdf/msot002a; ComponentLink3Description: URL Link1; ComponentLink3URL: Samples URL:http://www.ti.com/product/ua78l08a#samples
footprint LP3 (TO, Flat Index; 3 In-Line, Formed Axial Leads; Body Dia. 4.8mm; Leads 0.56 x 0.41 mm (max))
pins: 1 OUT (power), 2 COM (power), 3 IN (power)

## UA78L08CDR
designator U?
Fixed Regulator with 10.5 to 23 V Input and 8 V Output, 0 to 125 degC, 8-Pin SOIC (D), Green (RoHS & no Sb/Br); Manufacturer: Texas Instruments; PartNumber: UA78L08CDR; Iout(Max)(A): 0.1; Iq(Typ)(mA): 6; Vin(Max)(V): 23; Vin(Min)(V): 10.5; Vout(Max)(V): 8; DatasheetVersion: SLVS010S; PackageVersion: revM, Jun-2011; PackageReference: D8; PackageDescription: 8-Pin Plastic Small Outline Integrated Circuit, 4.9 x 3.9 mm, Pitch 1.27 mm Pitch; Supplier 1: Digi-Key; Supplier Part Number 1: UA78L08CDR-ND; Supplier 2: Newark; Supplier Part Number 2: 77C1869; Supplier 3: Mouser; Supplier Part Number 3: 595-UA78L08CDR; Eco-Plan: Green (RoHS & no Sb/Br); Vout(Min)(V): 8; Mounting Technology: Surface Mount; Code_JEDEC: MS-012AA; ComponentLink1Description: Datasheet; ComponentLink1URL: http://www.ti.com/general/docs/lit/getliterature.tsp?genericPartNumber=UA78L08&fileType=pdf; ComponentLink2Description: Package Specification; ComponentLink2URL: http://www.ti.com/litv/pdf/msoi002j; ComponentLink3Description: URL Link1; ComponentLink3URL: Samples URL:http://www.ti.com/product/ua78l08#samples
footprint D8_N (SOIC, 8-Leads, Body 4.9x3.9mm, Pitch 1.27mm, IPC Medium Density)
footprint D8_L (SOIC, 8-Leads, Body 4.9x3.9mm, Pitch 1.27mm, IPC High Density)
footprint D8_M (SOIC, 8-Leads, Body 4.9x3.9mm, Pitch 1.27mm, IPC Low Density)
pins: 1 OUT (power), 2 COM (power), 3 COM (power), 4 NC, 5 NC, 6 COM (power), 7 COM (power), 8 IN (power)

## UA78L08CDRE4
designator U?
Fixed Regulator with 10.5 to 23 V Input and 8 V Output, 0 to 125 degC, 8-Pin SOIC (D), Green (RoHS & no Sb/Br); Manufacturer: Texas Instruments; PartNumber: UA78L08CDRE4; Iout(Max)(A): 0.1; Iq(Typ)(mA): 6; SubFamily: Standard Voltage Regulator; Vin(Max)(V): 23; Vin(Min)(V): 10.5; Vout(Max)(V): 8; DatasheetVersion: SLVS010S; PackageVersion: revM, Jun-2011; PackageReference: D8; PackageDescription: 8-Pin Plastic Small Outline Integrated Circuit, 4.9 x 3.9 mm, Pitch 1.27 mm Pitch; Supplier 1: Digi-Key; Supplier Part Number 1: UA78L08CDRE4-ND; Supplier 2: Newark; Supplier Part Number 2: 37K4715; Supplier 3: Mouser; Supplier Part Number 3: 595-UA78L08CDRE4; Eco-Plan: Green (RoHS & no Sb/Br); Vout(Min)(V): 8; Mounting Technology: Surface Mount; Code_JEDEC: MS-012AA; ComponentLink1Description: Datasheet; ComponentLink1URL: http://www.ti.com/general/docs/lit/getliterature.tsp?genericPartNumber=UA78L08&fileType=pdf; ComponentLink2Description: Package Specification; ComponentLink2URL: http://www.ti.com/litv/pdf/msoi002j; ComponentLink3Description: URL Link1; ComponentLink3URL: Samples URL:http://www.ti.com/product/ua78l08#samples
footprint D8_N (SOIC, 8-Leads, Body 4.9x3.9mm, Pitch 1.27mm, IPC Medium Density)
footprint D8_L (SOIC, 8-Leads, Body 4.9x3.9mm, Pitch 1.27mm, IPC High Density)
footprint D8_M (SOIC, 8-Leads, Body 4.9x3.9mm, Pitch 1.27mm, IPC Low Density)
pins: 1 OUT (power), 2 COM (power), 3 COM (power), 4 NC, 5 NC, 6 COM (power), 7 COM (power), 8 IN (power)

## UA78L08CDRG4
designator U?
Fixed Regulator with 10.5 to 23 V Input and 8 V Output, 0 to 125 degC, 8-Pin SOIC (D), Green (RoHS & no Sb/Br); Manufacturer: Texas Instruments; PartNumber: UA78L08CDRG4; Iout(Max)(A): 0.1; Iq(Typ)(mA): 6; SubFamily: Standard Voltage Regulator; Vin(Max)(V): 23; Vin(Min)(V): 10.5; Vout(Max)(V): 8; DatasheetVersion: SLVS010S; PackageVersion: revM, Jun-2011; PackageReference: D8; PackageDescription: 8-Pin Plastic Small Outline Integrated Circuit, 4.9 x 3.9 mm, Pitch 1.27 mm Pitch; Supplier 1: Digi-Key; Supplier Part Number 1: UA78L08CDRG4-ND; Supplier 2: Newark; Supplier Part Number 2: 41M6397; Supplier 3: Mouser; Supplier Part Number 3: 595-UA78L08CDRG4; Eco-Plan: Green (RoHS & no Sb/Br); Vout(Min)(V): 8; Mounting Technology: Surface Mount; Code_JEDEC: MS-012AA; ComponentLink1Description: Datasheet; ComponentLink1URL: http://www.ti.com/general/docs/lit/getliterature.tsp?genericPartNumber=UA78L08&fileType=pdf; ComponentLink2Description: Package Specification; ComponentLink2URL: http://www.ti.com/litv/pdf/msoi002j; ComponentLink3Description: URL Link1; ComponentLink3URL: Samples URL:http://www.ti.com/product/ua78l08#samples
footprint D8_N (SOIC, 8-Leads, Body 4.9x3.9mm, Pitch 1.27mm, IPC Medium Density)
footprint D8_L (SOIC, 8-Leads, Body 4.9x3.9mm, Pitch 1.27mm, IPC High Density)
footprint D8_M (SOIC, 8-Leads, Body 4.9x3.9mm, Pitch 1.27mm, IPC Low Density)
pins: 1 OUT (power), 2 COM (power), 3 COM (power), 4 NC, 5 NC, 6 COM (power), 7 COM (power), 8 IN (power)

## UA78L09ACD
designator U?
Fixed Regulator with 11.5 to 24 V Input and 9 V Output, 0 to 125 degC, 8-Pin SOIC (D), Green (RoHS & no Sb/Br); Manufacturer: Texas Instruments; PartNumber: UA78L09ACD; Iout(Max)(A): 0.1; Iq(Typ)(mA): 6; Vdo(Typ)(V): 1.7; Vin(Max)(V): 24; Vin(Min)(V): 11.5; Vout(Max)(V): 9; DatasheetVersion: SLVS010S; PackageVersion: revM, Jun-2011; PackageReference: D8; PackageDescription: 8-Pin Plastic Small Outline Integrated Circuit, 4.9 x 3.9 mm, Pitch 1.27 mm Pitch; Supplier 1: Digi-Key; Supplier Part Number 1: 296-11126-5-ND; Supplier 2: Newark; Supplier Part Number 2: 77C1871; Supplier 3: Mouser; Supplier Part Number 3: 595-UA78L09ACD; Eco-Plan: Green (RoHS & no Sb/Br); Vout(Min)(V): 9; Mounting Technology: Surface Mount; Code_JEDEC: MS-012AA; ComponentLink1Description: Datasheet; ComponentLink1URL: http://www.ti.com/general/docs/lit/getliterature.tsp?genericPartNumber=UA78L09A&fileType=pdf; ComponentLink2Description: Package Specification; ComponentLink2URL: http://www.ti.com/litv/pdf/msoi002j; ComponentLink3Description: URL Link1; ComponentLink3URL: Samples URL:http://www.ti.com/product/ua78l09a#samples
footprint D8_N (SOIC, 8-Leads, Body 4.9x3.9mm, Pitch 1.27mm, IPC Medium Density)
footprint D8_L (SOIC, 8-Leads, Body 4.9x3.9mm, Pitch 1.27mm, IPC High Density)
footprint D8_M (SOIC, 8-Leads, Body 4.9x3.9mm, Pitch 1.27mm, IPC Low Density)
pins: 1 OUT (power), 2 GND (power), 3 GND (power), 4 NC, 5 NC, 6 GND (power), 7 GND (power), 8 IN (power)
text: COM

## UA78L09ACDE4
designator U?
Fixed Regulator with 11.5 to 24 V Input and 9 V Output, 0 to 125 degC, 8-Pin SOIC (D), Green (RoHS & no Sb/Br); Manufacturer: Texas Instruments; PartNumber: UA78L09ACDE4; Iout(Max)(A): 0.1; Iq(Typ)(mA): 6; Vin(Max)(V): 24; Vin(Min)(V): 11.5; Vout(Max)(V): 9; DatasheetVersion: SLVS010S; PackageVersion: revM, Jun-2011; PackageReference: D8; PackageDescription: 8-Pin Plastic Small Outline Integrated Circuit, 4.9 x 3.9 mm, Pitch 1.27 mm Pitch; Supplier 1: Digi-Key; Supplier Part Number 1: UA78L09ACDE4-ND; Supplier 2: Newark; Supplier Part Number 2: 37K4716; Supplier 3: Mouser; Supplier Part Number 3: 595-UA78L09ACDE4; Eco-Plan: Green (RoHS & no Sb/Br); Vout(Min)(V): 9; Mounting Technology: Surface Mount; Code_JEDEC: MS-012AA; ComponentLink1Description: Datasheet; ComponentLink1URL: http://www.ti.com/general/docs/lit/getliterature.tsp?genericPartNumber=UA78L09A&fileType=pdf; ComponentLink2Description: Package Specification; ComponentLink2URL: http://www.ti.com/litv/pdf/msoi002j; ComponentLink3Description: URL Link1; ComponentLink3URL: Samples URL:http://www.ti.com/product/ua78l09a#samples
footprint D8_N (SOIC, 8-Leads, Body 4.9x3.9mm, Pitch 1.27mm, IPC Medium Density)
footprint D8_L (SOIC, 8-Leads, Body 4.9x3.9mm, Pitch 1.27mm, IPC High Density)
footprint D8_M (SOIC, 8-Leads, Body 4.9x3.9mm, Pitch 1.27mm, IPC Low Density)
pins: 1 OUT (power), 2 GND (power), 3 GND (power), 4 NC, 5 NC, 6 GND (power), 7 GND (power), 8 IN (power)
text: COM

## UA78L09ACDG4
designator U?
Fixed Regulator with 11.5 to 24 V Input and 9 V Output, 0 to 125 degC, 8-Pin SOIC (D), Green (RoHS & no Sb/Br); Manufacturer: Texas Instruments; PartNumber: UA78L09ACDG4; Iout(Max)(A): 0.1; Iq(Typ)(mA): 6; Vin(Max)(V): 24; Vin(Min)(V): 11.5; Vout(Max)(V): 9; DatasheetVersion: SLVS010S; PackageVersion: revM, Jun-2011; PackageReference: D8; PackageDescription: 8-Pin Plastic Small Outline Integrated Circuit, 4.9 x 3.9 mm, Pitch 1.27 mm Pitch; Supplier 1: Digi-Key; Supplier Part Number 1: UA78L09ACDG4-ND; Supplier 2: Newark; Supplier Part Number 2: 41M6398; Supplier 3: Mouser; Supplier Part Number 3: 595-UA78L09ACDG4; Eco-Plan: Green (RoHS & no Sb/Br); Vout(Min)(V): 9; Mounting Technology: Surface Mount; Code_JEDEC: MS-012AA; ComponentLink1Description: Datasheet; ComponentLink1URL: http://www.ti.com/general/docs/lit/getliterature.tsp?genericPartNumber=UA78L09A&fileType=pdf; ComponentLink2Description: Package Specification; ComponentLink2URL: http://www.ti.com/litv/pdf/msoi002j; ComponentLink3Description: URL Link1; ComponentLink3URL: Samples URL:http://www.ti.com/product/ua78l09a#samples
footprint D8_N (SOIC, 8-Leads, Body 4.9x3.9mm, Pitch 1.27mm, IPC Medium Density)
footprint D8_L (SOIC, 8-Leads, Body 4.9x3.9mm, Pitch 1.27mm, IPC High Density)
footprint D8_M (SOIC, 8-Leads, Body 4.9x3.9mm, Pitch 1.27mm, IPC Low Density)
pins: 1 OUT (power), 2 GND (power), 3 GND (power), 4 NC, 5 NC, 6 GND (power), 7 GND (power), 8 IN (power)
text: COM

## UA78L09ACDR
designator U?
Fixed Regulator with 11.5 to 24 V Input and 9 V Output, 0 to 125 degC, 8-Pin SOIC (D), Green (RoHS & no Sb/Br); Manufacturer: Texas Instruments; PartNumber: UA78L09ACDR; Iout(Max)(A): 0.1; Iq(Typ)(mA): 6; Vin(Max)(V): 24; Vin(Min)(V): 11.5; Vout(Max)(V): 9; DatasheetVersion: SLVS010S; PackageVersion: revM, Jun-2011; PackageReference: D8; PackageDescription: 8-Pin Plastic Small Outline Integrated Circuit, 4.9 x 3.9 mm, Pitch 1.27 mm Pitch; Supplier 1: Digi-Key; Supplier Part Number 1: 296-15053-2-ND; Supplier 2: Digi-Key; Supplier Part Number 2: 296-15053-1-ND; Supplier 3: Digi-Key; Supplier Part Number 3: 296-15053-6-ND; Supplier 4: Newark; Supplier Part Number 4: 77C1872; Supplier 5: Mouser; Supplier Part Number 5: 595-UA78L09ACDR; Eco-Plan: Green (RoHS & no Sb/Br); Vout(Min)(V): 9; Mounting Technology: Surface Mount; Code_JEDEC: MS-012AA; ComponentLink1Description: Datasheet; ComponentLink1URL: http://www.ti.com/general/docs/lit/getliterature.tsp?genericPartNumber=UA78L09A&fileType=pdf; ComponentLink2Description: Package Specification; ComponentLink2URL: http://www.ti.com/litv/pdf/msoi002j; ComponentLink3Description: URL Link1; ComponentLink3URL: Samples URL:http://www.ti.com/product/ua78l09a#samples
footprint D8_N (SOIC, 8-Leads, Body 4.9x3.9mm, Pitch 1.27mm, IPC Medium Density)
footprint D8_L (SOIC, 8-Leads, Body 4.9x3.9mm, Pitch 1.27mm, IPC High Density)
footprint D8_M (SOIC, 8-Leads, Body 4.9x3.9mm, Pitch 1.27mm, IPC Low Density)
pins: 1 OUT (power), 2 GND (power), 3 GND (power), 4 NC, 5 NC, 6 GND (power), 7 GND (power), 8 IN (power)
text: COM

## UA78L09ACDRE4
designator U?
Fixed Regulator with 11.5 to 24 V Input and 9 V Output, 0 to 125 degC, 8-Pin SOIC (D), Green (RoHS & no Sb/Br); Manufacturer: Texas Instruments; PartNumber: UA78L09ACDRE4; Iout(Max)(A): 0.1; Iq(Typ)(mA): 6; SubFamily: Standard Voltage Regulator; Vin(Max)(V): 24; Vin(Min)(V): 11.5; Vout(Max)(V): 9; DatasheetVersion: SLVS010S; PackageVersion: revM, Jun-2011; PackageReference: D8; PackageDescription: 8-Pin Plastic Small Outline Integrated Circuit, 4.9 x 3.9 mm, Pitch 1.27 mm Pitch; Supplier 1: Digi-Key; Supplier Part Number 1: UA78L09ACDRE4-ND; Supplier 2: Newark; Supplier Part Number 2: 37K4717; Supplier 3: Mouser; Supplier Part Number 3: 595-UA78L09ACDRE4; Eco-Plan: Green (RoHS & no Sb/Br); Vout(Min)(V): 9; Mounting Technology: Surface Mount; Code_JEDEC: MS-012AA; ComponentLink1Description: Datasheet; ComponentLink1URL: http://www.ti.com/general/docs/lit/getliterature.tsp?genericPartNumber=UA78L09A&fileType=pdf; ComponentLink2Description: Package Specification; ComponentLink2URL: http://www.ti.com/litv/pdf/msoi002j; ComponentLink3Description: URL Link1; ComponentLink3URL: Samples URL:http://www.ti.com/product/ua78l09a
footprint D8_N (SOIC, 8-Leads, Body 4.9x3.9mm, Pitch 1.27mm, IPC Medium Density)
footprint D8_L (SOIC, 8-Leads, Body 4.9x3.9mm, Pitch 1.27mm, IPC High Density)
footprint D8_M (SOIC, 8-Leads, Body 4.9x3.9mm, Pitch 1.27mm, IPC Low Density)
pins: 1 OUT (power), 2 GND (power), 3 GND (power), 4 NC, 5 NC, 6 GND (power), 7 GND (power), 8 IN (power)
text: COM

## UA78L09ACDRG4
designator U?
Fixed Regulator with 11.5 to 24 V Input and 9 V Output, 0 to 125 degC, 8-Pin SOIC (D), Green (RoHS & no Sb/Br); Manufacturer: Texas Instruments; PartNumber: UA78L09ACDRG4; Iout(Max)(A): 0.1; Iq(Typ)(mA): 6; Vin(Max)(V): 24; Vin(Min)(V): 11.5; Vout(Max)(V): 9; DatasheetVersion: SLVS010S; PackageVersion: revM, Jun-2011; PackageReference: D8; PackageDescription: 8-Pin Plastic Small Outline Integrated Circuit, 4.9 x 3.9 mm, Pitch 1.27 mm Pitch; Supplier 1: Digi-Key; Supplier Part Number 1: UA78L09ACDRG4-ND; Supplier 2: Newark; Supplier Part Number 2: 41M6399; Supplier 3: Mouser; Supplier Part Number 3: 595-UA78L09ACDRG4; Eco-Plan: Green (RoHS & no Sb/Br); Vout(Min)(V): 9; Mounting Technology: Surface Mount; Code_JEDEC: MS-012AA; ComponentLink1Description: Datasheet; ComponentLink1URL: http://www.ti.com/general/docs/lit/getliterature.tsp?genericPartNumber=UA78L09A&fileType=pdf; ComponentLink2Description: Package Specification; ComponentLink2URL: http://www.ti.com/litv/pdf/msoi002j; ComponentLink3Description: URL Link1; ComponentLink3URL: Samples URL:http://www.ti.com/product/ua78l09a#samples
footprint D8_N (SOIC, 8-Leads, Body 4.9x3.9mm, Pitch 1.27mm, IPC Medium Density)
footprint D8_L (SOIC, 8-Leads, Body 4.9x3.9mm, Pitch 1.27mm, IPC High Density)
footprint D8_M (SOIC, 8-Leads, Body 4.9x3.9mm, Pitch 1.27mm, IPC Low Density)
pins: 1 OUT (power), 2 GND (power), 3 GND (power), 4 NC, 5 NC, 6 GND (power), 7 GND (power), 8 IN (power)
text: COM

## UA78L09ACLP
designator U?
Fixed Regulator with 11.5 to 24 V Input and 9 V Output, 0 to 125 degC, 3-Pin TO-92 (LP), Pb-Free (RoHS); Manufacturer: Texas Instruments; PartNumber: UA78L09ACLP; Iout(Max)(A): 0.1; Iq(Typ)(mA): 6; SubFamily: Standard Voltage Regulator; Vin(Max)(V): 24; Vin(Min)(V): 11.5; Vout(Max)(V): 9; DatasheetVersion: SLVS010S; PackageVersion: revC, Oct-2001; PackageReference: LP3; PackageDescription: Plastic Cylindrical Package, Formed Lead Option (TO-92); Supplier 1: Digi-Key; Supplier Part Number 1: 296-11127-5-ND; Supplier 2: Farnell; Supplier Part Number 2: 2131454; Supplier 3: Newark; Supplier Part Number 3: 14P7578; Supplier 4: Mouser; Supplier Part Number 4: 595-UA78L09ACLP; Eco-Plan: Pb-Free (RoHS); Vout(Min)(V): 9; Mounting Technology: Through Hole; Code_JEDEC: TO-226-AA; ComponentLink1Description: Datasheet; ComponentLink1URL: http://www.ti.com/general/docs/lit/getliterature.tsp?genericPartNumber=UA78L09A&fileType=pdf; ComponentLink2Description: Package Specification; ComponentLink2URL: http://www.ti.com/litv/pdf/msot002a; ComponentLink3Description: URL Link1; ComponentLink3URL: Samples URL:http://www.ti.com/product/ua78l09a#samples
footprint LP3 (TO, Flat Index; 3 In-Line, Formed Axial Leads; Body Dia. 4.8mm; Leads 0.56 x 0.41 mm (max))
pins: 1 OUT (power), 2 COM (power), 3 IN (power)

## UA78L09ACLPE3
designator U?
Fixed Regulator with 11.5 to 24 V Input and 9 V Output, 0 to 125 degC, 3-Pin TO-92 (LP), Pb-Free (RoHS); Manufacturer: Texas Instruments; PartNumber: UA78L09ACLPE3; Iout(Max)(A): 0.1; Iq(Typ)(mA): 6; SubFamily: Standard Voltage Regulator; Vin(Max)(V): 24; Vin(Min)(V): 11.5; Vout(Max)(V): 9; DatasheetVersion: SLVS010S; PackageVersion: revC, Oct-2001; PackageReference: LP3; PackageDescription: Plastic Cylindrical Package, Formed Lead Option (TO-92); Supplier 1: Digi-Key; Supplier Part Number 1: UA78L09ACLPE3-ND; Supplier 2: Newark; Supplier Part Number 2: 70K5845; Supplier 3: Mouser; Supplier Part Number 3: 595-UA78L09ACLPE3; Eco-Plan: Pb-Free (RoHS); Vout(Min)(V): 9; Mounting Technology: Through Hole; Code_JEDEC: TO-226-AA; ComponentLink1Description: Datasheet; ComponentLink1URL: http://www.ti.com/general/docs/lit/getliterature.tsp?genericPartNumber=UA78L09A&fileType=pdf; ComponentLink2Description: Package Specification; ComponentLink2URL: http://www.ti.com/litv/pdf/msot002a; ComponentLink3Description: URL Link1; ComponentLink3URL: Samples URL:http://www.ti.com/product/ua78l09a#samples
footprint LP3 (TO, Flat Index; 3 In-Line, Formed Axial Leads; Body Dia. 4.8mm; Leads 0.56 x 0.41 mm (max))
pins: 1 OUT (power), 2 COM (power), 3 IN (power)

## UA78L09ACLPR
designator U?
Fixed Regulator with 11.5 to 24 V Input and 9 V Output, 0 to 125 degC, 3-Pin TO-92 (LP), Pb-Free (RoHS); Manufacturer: Texas Instruments; PartNumber: UA78L09ACLPR; Iout(Max)(A): 0.1; Iq(Typ)(mA): 6; SubFamily: Standard Voltage Regulator; Vin(Max)(V): 24; Vin(Min)(V): 11.5; Vout(Max)(V): 9; DatasheetVersion: SLVS010S; PackageVersion: revC, Oct-2001; PackageReference: LP3; PackageDescription: Plastic Cylindrical Package, Formed Lead Option (TO-92); Supplier 1: Digi-Key; Supplier Part Number 1: 296-31462-2-ND; Supplier 2: Digi-Key; Supplier Part Number 2: 296-31462-1-ND; Supplier 3: Newark; Supplier Part Number 3: 77C1873; Supplier 4: Mouser; Supplier Part Number 4: 595-UA78L09ACLPR; Eco-Plan: Pb-Free (RoHS); Vout(Min)(V): 9; Mounting Technology: Through Hole; Code_JEDEC: TO-226-AA; ComponentLink1Description: Datasheet; ComponentLink1URL: http://www.ti.com/general/docs/lit/getliterature.tsp?genericPartNumber=UA78L09A&fileType=pdf; ComponentLink2Description: Package Specification; ComponentLink2URL: http://www.ti.com/litv/pdf/msot002a; ComponentLink3Description: URL Link1; ComponentLink3URL: Samples URL:http://www.ti.com/product/ua78l09a#samples
footprint LP3 (TO, Flat Index; 3 In-Line, Formed Axial Leads; Body Dia. 4.8mm; Leads 0.56 x 0.41 mm (max))
pins: 1 OUT (power), 2 COM (power), 3 IN (power)

## UA78L09ACLPRE3
designator U?
Fixed Regulator with 11.5 to 24 V Input and 9 V Output, 0 to 125 degC, 3-Pin TO-92 (LP), Pb-Free (RoHS); Manufacturer: Texas Instruments; PartNumber: UA78L09ACLPRE3; Iout(Max)(A): 0.1; Iq(Typ)(mA): 6; SubFamily: Standard Voltage Regulator; Vin(Max)(V): 24; Vin(Min)(V): 11.5; Vout(Max)(V): 9; DatasheetVersion: SLVS010S; PackageVersion: revC, Oct-2001; PackageReference: LP3; PackageDescription: Plastic Cylindrical Package, Formed Lead Option (TO-92); Supplier 1: Digi-Key; Supplier Part Number 1: UA78L09ACLPRE3-ND; Supplier 2: Newark; Supplier Part Number 2: 70K5846; Supplier 3: Mouser; Supplier Part Number 3: 595-UA78L09ACLPRE3; Eco-Plan: Pb-Free (RoHS); Vout(Min)(V): 9; Mounting Technology: Through Hole; Code_JEDEC: TO-226-AA; ComponentLink1Description: Datasheet; ComponentLink1URL: http://www.ti.com/general/docs/lit/getliterature.tsp?genericPartNumber=UA78L09A&fileType=pdf; ComponentLink2Description: Package Specification; ComponentLink2URL: http://www.ti.com/litv/pdf/msot002a; ComponentLink3Description: URL Link1; ComponentLink3URL: Samples URL:http://www.ti.com/product/ua78l09a#samples
footprint LP3 (TO, Flat Index; 3 In-Line, Formed Axial Leads; Body Dia. 4.8mm; Leads 0.56 x 0.41 mm (max))
pins: 1 OUT (power), 2 COM (power), 3 IN (power)

## UA78L10ACD
designator U?
Regulator with 12.5 to 25 V Input and 10 V Output, 0 to 125 degC, 8-Pin SOIC (D), Green (RoHS & no Sb/Br); Manufacturer: Texas Instruments; PartNumber: UA78L10ACD; Iout(Max)(A): 0.1; Iq(Typ)(mA): 6; Vin(Max)(V): 25; Vin(Min)(V): 12.5; Vout(Max)(V): 10; DatasheetVersion: SLVS010S; PackageVersion: revM, Jun-2011; PackageReference: D8; PackageDescription: 8-Pin Plastic Small Outline Integrated Circuit, 4.9 x 3.9 mm, Pitch 1.27 mm Pitch; Supplier 1: Digi-Key; Supplier Part Number 1: 296-11129-5-ND; Supplier 2: Newark; Supplier Part Number 2: 36K3714; Supplier 3: Mouser; Supplier Part Number 3: 595-UA78L10ACD; Eco-Plan: Green (RoHS & no Sb/Br); Vout(Min)(V): 10; Mounting Technology: Surface Mount; Code_JEDEC: MS-012AA; ComponentLink1Description: Datasheet; ComponentLink1URL: http://www.ti.com/general/docs/lit/getliterature.tsp?genericPartNumber=UA78L10A&fileType=pdf; ComponentLink2Description: Package Specification; ComponentLink2URL: http://www.ti.com/litv/pdf/msoi002j; ComponentLink3Description: URL Link1; ComponentLink3URL: Samples URL:http://www.ti.com/product/ua78l10a#samples
footprint D8_N (SOIC, 8-Leads, Body 4.9x3.9mm, Pitch 1.27mm, IPC Medium Density)
footprint D8_L (SOIC, 8-Leads, Body 4.9x3.9mm, Pitch 1.27mm, IPC High Density)
footprint D8_M (SOIC, 8-Leads, Body 4.9x3.9mm, Pitch 1.27mm, IPC Low Density)
pins: 1 OUT (power), 2 GND (power), 3 GND (power), 4 NC, 5 NC, 6 GND (power), 7 GND (power), 8 IN (power)
text: COM

## UA78L10ACDE4
designator U?
Regulator with 12.5 to 25 V Input and 10 V Output, 0 to 125 degC, 8-Pin SOIC (D), Green (RoHS & no Sb/Br); Manufacturer: Texas Instruments; PartNumber: UA78L10ACDE4; Iout(Max)(A): 0.1; Iq(Typ)(mA): 6; Vin(Max)(V): 25; Vin(Min)(V): 12.5; Vout(Max)(V): 10; DatasheetVersion: SLVS010S; PackageVersion: revM, Jun-2011; PackageReference: D8; PackageDescription: 8-Pin Plastic Small Outline Integrated Circuit, 4.9 x 3.9 mm, Pitch 1.27 mm Pitch; Supplier 1: Digi-Key; Supplier Part Number 1: UA78L10ACDE4-ND; Supplier 2: Newark; Supplier Part Number 2: 37K4718; Supplier 3: Mouser; Supplier Part Number 3: 595-UA78L10ACDE4; Eco-Plan: Green (RoHS & no Sb/Br); Vout(Min)(V): 10; Mounting Technology: Surface Mount; Code_JEDEC: MS-012AA; ComponentLink1Description: Datasheet; ComponentLink1URL: http://www.ti.com/general/docs/lit/getliterature.tsp?genericPartNumber=UA78L10A&fileType=pdf; ComponentLink2Description: Package Specification; ComponentLink2URL: http://www.ti.com/litv/pdf/msoi002j; ComponentLink3Description: URL Link1; ComponentLink3URL: Samples URL:http://www.ti.com/product/ua78l10a#samples
footprint D8_N (SOIC, 8-Leads, Body 4.9x3.9mm, Pitch 1.27mm, IPC Medium Density)
footprint D8_L (SOIC, 8-Leads, Body 4.9x3.9mm, Pitch 1.27mm, IPC High Density)
footprint D8_M (SOIC, 8-Leads, Body 4.9x3.9mm, Pitch 1.27mm, IPC Low Density)
pins: 1 OUT (power), 2 GND (power), 3 GND (power), 4 NC, 5 NC, 6 GND (power), 7 GND (power), 8 IN (power)
text: COM